# EAGLE library part ES_3340_V2 (library Electrosmith_Boards)
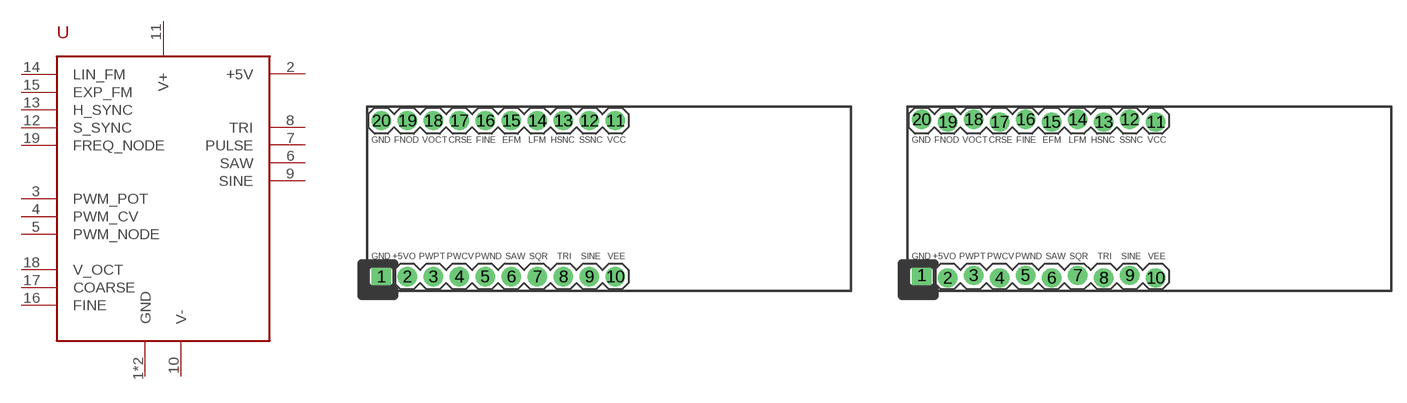
[diagram p1: symbol with the pads of ES_3340_V2; footprints ES_3340_V2, ES_3340_V2_LOCK]

Designator prefix U

## ES_3340_V2  [ES_3340_V2]
1  GND
2  +5V
3  PWM_POT
4  PWM_CV
5  PWM_NODE
6  SAW
7  PULSE
8  TRI
9  SINE
10  V-
11  V+
12  S_SYNC
13  H_SYNC
14  LIN_FM
15  EXP_FM
16  FINE
17  COARSE
18  V_OCT
19  FREQ_NODE
20  GND

## ES_3340_V2_LOCK  [ES_3340_V2_LOCK]
Pads as for ES_3340_V2

## Footprint ES_3340_V2 (pad centres in mm)
drill 1.016 pad 1.88 square: 1 1.397,1.397
drill 1.016 pad 1.88: 2 3.937,1.397; 3 6.477,1.397; 4 9.017,1.397; 5 11.557,1.397; 6 14.097,1.397; 7 16.637,1.397; 8 19.177,1.397; 9 21.717,1.397; 10 24.257,1.397; 11 24.257,16.637; 12 21.717,16.637; 13 19.177,16.637; 14 16.637,16.637; 15 14.097,16.637; 16 11.557,16.637; 17 9.017,16.637; 18 6.477,16.637; 19 3.937,16.637; 20 1.397,16.637

## Footprint ES_3340_V2_LOCK (pad centres in mm)
drill 1.016 pad 1.88 square: 1 1.397,1.524
drill 1.016 pad 1.88: 2 3.937,1.27; 3 6.477,1.524; 4 9.017,1.27; 5 11.557,1.524; 6 14.097,1.27; 7 16.637,1.524; 8 19.177,1.27; 9 21.717,1.524; 10 24.257,1.27; 11 24.257,16.51; 12 21.717,16.764; 13 19.177,16.51; 14 16.637,16.764; 15 14.097,16.51; 16 11.557,16.764; 17 9.017,16.51; 18 6.477,16.764; 19 3.937,16.51; 20 1.397,16.764